# Altium schematic symbol library DC-050.SchLib: 1 symbol
Pins are listed as number, name and electrical type; pins without a type are passive.

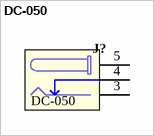
[diagram p0: symbol DC-050]

## DC-050
designator J?
pins: 3 (power), 4 (power), 5 (power)